# EAGLE library part BOB_SMALL_LM3S608 (library CEDTv77)
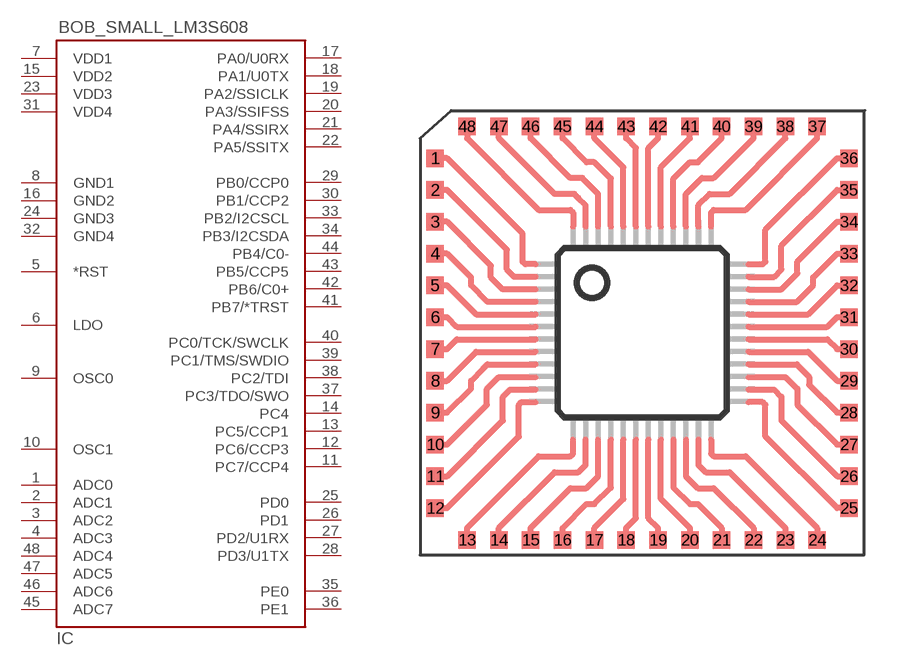
[diagram p52: symbol with the pads of BOB_LQFP48_SMALL; footprint BOB_LQFP48_SMALL]

Designator prefix IC

## BOB_SMALL_LM3S608  [BOB_LQFP48_SMALL]
1  ADC0  pas
2  ADC1  pas
3  ADC2  pas
4  ADC3  pas
5  *RST  pas
6  LDO  pas
7  VDD1  pas
8  GND1  pas
9  OSC0  pas
10  OSC1  pas
11  PC7/CCP4  pas
12  PC6/CCP3  pas
13  PC5/CCP1  pas
14  PC4  pas
15  VDD2  pas
16  GND2  pas
17  PA0/U0RX  pas
18  PA1/U0TX  pas
19  PA2/SSICLK  pas
20  PA3/SSIFSS  pas
21  PA4/SSIRX  pas
22  PA5/SSITX  pas
23  VDD3  pas
24  GND3  pas
25  PD0  pas
26  PD1  pas
27  PD2/U1RX  pas
28  PD3/U1TX  pas
29  PB0/CCP0  pas
30  PB1/CCP2  pas
31  VDD4  pas
32  GND4  pas
33  PB2/I2CSCL  pas
34  PB3/I2CSDA  pas
35  PE0  pas
36  PE1  pas
37  PC3/TDO/SWO  pas
38  PC2/TDI  pas
39  PC1/TMS/SWDIO  pas
40  PC0/TCK/SWCLK  pas
41  PB7/*TRST  pas
42  PB6/C0+  pas
43  PB5/CCP5  pas
44  PB4/C0-  pas
45  ADC7  pas
46  ADC6  pas
47  ADC5  pas
48  ADC4  pas

## Footprint BOB_LQFP48_SMALL (pad centres in mm)
smd 0.7 x 0.7: 1 -8.414,6.826; 2 -8.414,5.556; 3 -8.414,4.286; 4 -8.414,3.016; 5 -8.414,1.746; 6 -8.414,0.476; 7 -8.414,-0.794; 8 -8.414,-2.064; 9 -8.414,-3.334; 10 -8.414,-4.604; 11 -8.414,-5.874; 12 -8.414,-7.144; 13 -7.144,-8.414; 14 -5.874,-8.414; 15 -4.604,-8.414; 16 -3.334,-8.414; 17 -2.064,-8.414; 18 -0.794,-8.414; 19 0.476,-8.414; 20 1.746,-8.414; 21 3.016,-8.414; 22 4.286,-8.414; 23 5.556,-8.414; 24 6.826,-8.414; 25 8.096,-7.144; 26 8.096,-5.874; 27 8.096,-4.604; 28 8.096,-3.334; 29 8.096,-2.064; 30 8.096,-0.794; 31 8.096,0.476; 32 8.096,1.746; 33 8.096,3.016; 34 8.096,4.286; 35 8.096,5.556; 36 8.096,6.826; 37 6.826,8.096; 38 5.556,8.096; 39 4.286,8.096; 40 3.016,8.096; 41 1.746,8.096; 42 0.476,8.096; 43 -0.794,8.096; 44 -2.064,8.096; 45 -3.334,8.096; 46 -4.604,8.096; 47 -5.874,8.096; 48 -7.144,8.096